# EAGLE library part PXA270_VF_BGA (library MAX9812)
Intel® PXA270 Processor PXA270 with VF-BGA package 13x13 Features: High-performance processor: -Intel XScale® microarchitecture with Intel® Wireless MMX? Technology -7 Stage pipeline -32 KB instruction cache -32 KB data cache -2 KB "mini" data cache -Extensive data buffering 256 Kbytes of internal SRAM for high speed code or data storage preserved during low-power states High-speed baseband processor interface (Mobile Scalable Link) Rich serial peripheral set: -AC?97 audio port -I2S audio port -USB Client controller -USB Host controller -USB On-The-Go controller -Three high-speed UARTs (two with hardware flow control) -FIR and SIR infrared communications port Hardware debug features ? IEEE JTAG interface with boundary scan Hardware performance-monitoring features with on-chip trace buffer Real-time clock Operating-system timers LCD Controller Universal Subscriber Identity Module interface Low power: -Wireless Intel Speedstep® Technology -Less than 500 mW typical internal dissipation -Supply voltage may be reduced to 0.85 V -Four low-power modes -Dynamic voltage and frequencymanagement High-performance memory controller: -Four banks of SDRAM: up to 104 MHz @ 2.5V, 3.0V, and 3.3V I/O interface -Six static chip selects -Support for PCMCIA and Compact Flash -Companion chip interface Flexible clocking: -CPU clock from 104 to 624 MHz -Flexible memory clock ratios -Frequency changes -Functional clock gating Additional peripherals for system connectivity: -SD Card / MMC Controller (with SPI mode support) -Memory Stick card controller -Three SSP controllers -Two I2C controllers -Four pulse-width modulators (PWMs) -Keypad interface with both direct and matrix keys support -Most peripheral pins double as GPIOs Description: The Intel® PXA270 processor (PXA270 processor) provides industry-leading multimedia performance, low-power capabilities, rich peripheral integration and second generation memory stacking. Designed from the ground up for wireless clients, it incorporates the latest Intel advances in mobile technology over its predecessor, the Intel® PXA255 processor. These same attributes and features also make the PXA270 processor ideal for embedded applications. The PXA270 processor redefines scalability by operating from 104 MHz up to 624 MHz, providing enough performance for the most demanding mobile applications. The PXA270 processor is the first Intel processor to include Intel® Wireless MMX? technology, enabling high-performance, low-power multimedia acceleration with a general-purpose instruction set. Intel® Quick Capture technology provides a flexible and powerful camera interface for capturing digital images and video. While performance is key in the PXA270 processor, power consumption is also a critical component. The new capabilities of Wireless Intel SpeedStep® technology set the standard for low-power consumption. The PXA270 processor is offered in two packages: 13x13 mm VFBGA and 23x23 mm PBGA. Please send any comments to: messi@users.sourceforge.net
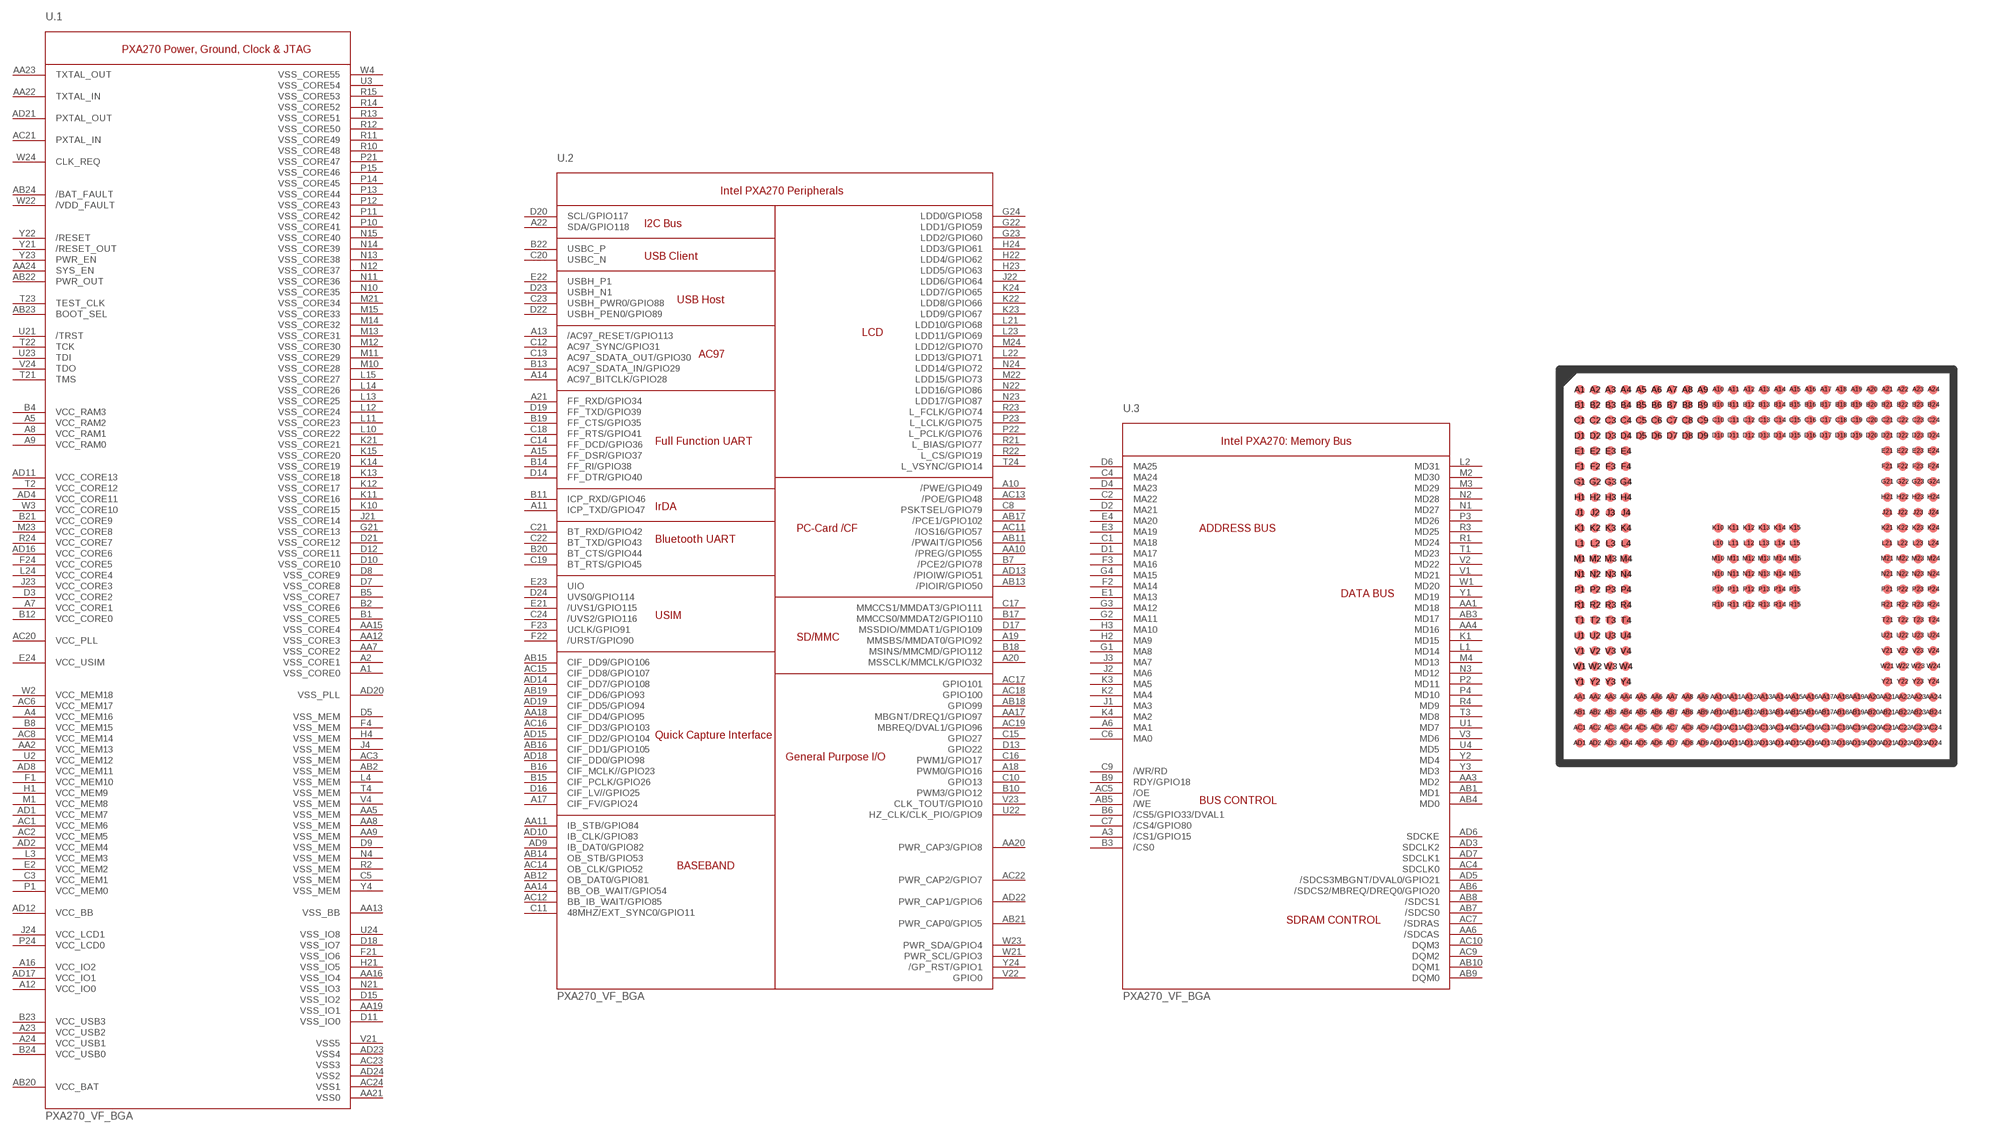
[diagram p28: symbol with the pads of PXA270_VF_BGA; footprint PXA270_VF_BGA]

Designator prefix U; gates .2=PXA270_PERIPHERALS .3=PXA_270_MEM_BUS .1=PXA270_PWR_CLK_13X13

## PXA270_VF_BGA  [PXA270_VF_BGA]
A1  .1:VSS_CORE0  pwr
A2  .1:VSS_CORE1  pwr
A3  .3:/CS1/GPIO15
A4  .1:VCC_MEM16  pwr
A5  .1:VCC_RAM2  pwr
A6  .3:MA1  out
A7  .1:VCC_CORE1  pwr
A8  .1:VCC_RAM1  pwr
A9  .1:VCC_RAM0  pwr
A10  .2:/PWE/GPIO49
A11  .2:ICP_TXD/GPIO47
A12  .1:VCC_IO0  pwr
A13  .2:/AC97_RESET/GPIO113
A14  .2:AC97_BITCLK/GPIO28
A15  .2:FF_DSR/GPIO37
A16  .1:VCC_IO2  pwr
A17  .2:CIF_FV/GPIO24
A18  .2:PWM0/GPIO16
A19  .2:MMSBS/MMDAT0/GPIO92
A20  .2:MSSCLK/MMCLK/GPIO32
A21  .2:FF_RXD/GPIO34
A22  .2:SDA/GPIO118
A23  .1:VCC_USB2  pwr
A24  .1:VCC_USB1  pwr
AA1  .3:MD18
AA2  .1:VCC_MEM13  pwr
AA3  .3:MD2
AA4  .3:MD16
AA5  .1:VSS_MEM  pwr
AA6  .3:/SDCAS  out
AA7  .1:VSS_CORE2  pwr
AA8  .1:VSS_MEM  pwr
AA9  .1:VSS_MEM  pwr
AA10  .2:/PREG/GPIO55
AA11  .2:IB_STB/GPIO84
AA12  .1:VSS_CORE3  pwr
AA13  .1:VSS_BB  pwr
AA14  .2:BB_OB_WAIT/GPIO54
AA15  .1:VSS_CORE4  pwr
AA16  .1:VSS_IO4  pwr
AA17  .2:MBGNT/DREQ1/GPIO97
AA18  .2:CIF_DD4/GPIO95
AA19  .1:VSS_IO1  pwr
AA20  .2:PWR_CAP3/GPIO8
AA21  .1:VSS0  pwr
AA22  .1:TXTAL_IN  in
AA23  .1:TXTAL_OUT  out
AA24  .1:SYS_EN
AB1  .3:MD1
AB2  .1:VSS_MEM  pwr
AB3  .3:MD17
AB4  .3:MD0
AB5  .3:/WE  out
AB6  .3:/SDCS2/MBREQ/DREQ0/GPIO20
AB7  .3:/SDCS0  out
AB8  .3:/SDCS1  out
AB9  .3:DQM0  out
AB10  .3:DQM1  out
AB11  .2:/PWAIT/GPIO56
AB12  .2:OB_DAT0/GPIO81
AB13  .2:/PIOIR/GPIO50
AB14  .2:OB_STB/GPIO53
AB15  .2:CIF_DD9/GPIO106
AB16  .2:CIF_DD1/GPIO105
AB17  .2:/PCE1/GPIO102
AB18  .2:GPIO99
AB19  .2:CIF_DD6/GPIO93
AB20  .1:VCC_BAT  pwr
AB21  .2:PWR_CAP0/GPIO5
AB22  .1:PWR_OUT  out
AB23  .1:BOOT_SEL  in
AB24  .1:/BAT_FAULT  in
AC1  .1:VCC_MEM6  pwr
AC2  .1:VCC_MEM5  pwr
AC3  .1:VSS_MEM  pwr
AC4  .3:SDCLK0  out
AC5  .3:/OE  out
AC6  .1:VCC_MEM17  pwr
AC7  .3:/SDRAS  out
AC8  .1:VCC_MEM14  pwr
AC9  .3:DQM2  out
AC10  .3:DQM3  out
AC11  .2:/IOS16/GPIO57
AC12  .2:BB_IB_WAIT/GPIO85
AC13  .2:/POE/GPIO48
AC14  .2:OB_CLK/GPIO52
AC15  .2:CIF_DD8/GPIO107
AC16  .2:CIF_DD3/GPIO103
AC17  .2:GPIO101
AC18  .2:GPIO100
AC19  .2:MBREQ/DVAL1/GPIO96
AC20  .1:VCC_PLL  pwr
AC21  .1:PXTAL_IN  in
AC22  .2:PWR_CAP2/GPIO7
AC23  .1:VSS3  pwr
AC24  .1:VSS1  pwr
AD1  .1:VCC_MEM7  pwr
AD2  .1:VCC_MEM4  pwr
AD3  .3:SDCLK2  out
AD4  .1:VCC_CORE11  pwr
AD5  .3:/SDCS3MBGNT/DVAL0/GPIO21
AD6  .3:SDCKE  out
AD7  .3:SDCLK1  out
AD8  .1:VCC_MEM11  pwr
AD9  .2:IB_DAT0/GPIO82
AD10  .2:IB_CLK/GPIO83
AD11  .1:VCC_CORE13  pwr
AD12  .1:VCC_BB  pwr
AD13  .2:/PIOIW/GPIO51
AD14  .2:CIF_DD7/GPIO108
AD15  .2:CIF_DD2/GPIO104
AD16  .1:VCC_CORE6  pwr
AD17  .1:VCC_IO1  pwr
AD18  .2:CIF_DD0/GPIO98
AD19  .2:CIF_DD5/GPIO94
AD20  .1:VSS_PLL  pwr
AD21  .1:PXTAL_OUT  out
AD22  .2:PWR_CAP1/GPIO6
AD23  .1:VSS4  pwr
AD24  .1:VSS2  pwr
B1  .1:VSS_CORE5  pwr
B2  .1:VSS_CORE6  pwr
B3  .3:/CS0  out
B4  .1:VCC_RAM3  pwr
B5  .1:VSS_CORE7  pwr
B6  .3:/CS5/GPIO33/DVAL1
B7  .2:/PCE2/GPIO78
B8  .1:VCC_MEM15  pwr
B9  .3:RDY/GPIO18
B10  .2:PWM3/GPIO12
B11  .2:ICP_RXD/GPIO46
B12  .1:VCC_CORE0  pwr
B13  .2:AC97_SDATA_IN/GPIO29
B14  .2:FF_RI/GPIO38
B15  .2:CIF_PCLK/GPIO26
B16  .2:CIF_MCLK//GPIO23
B17  .2:MMCCS0/MMDAT2/GPIO110
B18  .2:MSINS/MMCMD/GPIO112
B19  .2:FF_CTS/GPIO35
B20  .2:BT_CTS/GPIO44
B21  .1:VCC_CORE9  pwr
B22  .2:USBC_P
B23  .1:VCC_USB3  pwr
B24  .1:VCC_USB0  pwr
C1  .3:MA18  out
C2  .3:MA22  out
C3  .1:VCC_MEM1  pwr
C4  .3:MA24  out
C5  .1:VSS_MEM  pwr
C6  .3:MA0  out
C7  .3:/CS4/GPIO80
C8  .2:PSKTSEL/GPIO79
C9  .3:/WR/RD  out
C10  .2:GPIO13
C11  .2:48MHZ/EXT_SYNC0/GPIO11
C12  .2:AC97_SYNC/GPIO31
C13  .2:AC97_SDATA_OUT/GPIO30
C14  .2:FF_DCD/GPIO36
C15  .2:GPIO27
C16  .2:PWM1/GPIO17
C17  .2:MMCCS1/MMDAT3/GPIO111
C18  .2:FF_RTS/GPIO41
C19  .2:BT_RTS/GPIO45
C20  .2:USBC_N
C21  .2:BT_RXD/GPIO42
C22  .2:BT_TXD/GPIO43
C23  .2:USBH_PWR0/GPIO88
C24  .2:/UVS2/GPIO116
D1  .3:MA17  out
D2  .3:MA21  out
D3  .1:VCC_CORE2  pwr
D4  .3:MA23  out
D5  .1:VSS_MEM  pwr
D6  .3:MA25  out
D7  .1:VSS_CORE8  pwr
D8  .1:VSS_CORE9  pwr
D9  .1:VSS_MEM  pwr
D10  .1:VSS_CORE10  pwr
D11  .1:VSS_IO0  pwr
D12  .1:VSS_CORE11  pwr
D13  .2:GPIO22
D14  .2:FF_DTR/GPIO40
D15  .1:VSS_IO2  pwr
D16  .2:CIF_LV//GPIO25
D17  .2:MSSDIO/MMDAT1/GPIO109
D18  .1:VSS_IO7  pwr
D19  .2:FF_TXD/GPIO39
D20  .2:SCL/GPIO117
D21  .1:VSS_CORE12  pwr
D22  .2:USBH_PEN0/GPIO89
D23  .2:USBH_N1
D24  .2:UVS0/GPIO114
E1  .3:MA13  out
E2  .1:VCC_MEM2  pwr
E3  .3:MA19  out
E4  .3:MA20  out
E21  .2:/UVS1/GPIO115
E22  .2:USBH_P1
E23  .2:UIO
E24  .1:VCC_USIM  pwr
F1  .1:VCC_MEM10  pwr
F2  .3:MA14  out
F3  .3:MA16  out
F4  .1:VSS_MEM  pwr
F21  .1:VSS_IO6  pwr
F22  .2:/URST/GPIO90
F23  .2:UCLK/GPIO91
F24  .1:VCC_CORE5  pwr
G1  .3:MA8  out
G2  .3:MA11  out
G3  .3:MA12  out
G4  .3:MA15  out
G21  .1:VSS_CORE13  pwr
G22  .2:LDD1/GPIO59
G23  .2:LDD2/GPIO60
G24  .2:LDD0/GPIO58
H1  .1:VCC_MEM9  pwr
H2  .3:MA9  out
H3  .3:MA10  out
H4  .1:VSS_MEM  pwr
H21  .1:VSS_IO5  pwr
H22  .2:LDD4/GPIO62
H23  .2:LDD5/GPIO63
H24  .2:LDD3/GPIO61
J1  .3:MA3  out
J2  .3:MA6  out
J3  .3:MA7  out
J4  .1:VSS_MEM  pwr
J21  .1:VSS_CORE14  pwr
J22  .2:LDD6/GPIO64
J23  .1:VCC_CORE3  pwr
J24  .1:VCC_LCD1  pwr
K1  .3:MD15
K2  .3:MA4  out
K3  .3:MA5  out
K4  .3:MA2  out
K10  .1:VSS_CORE15  pwr
K11  .1:VSS_CORE16  pwr
K12  .1:VSS_CORE17  pwr
K13  .1:VSS_CORE18  pwr
K14  .1:VSS_CORE19  pwr
K15  .1:VSS_CORE20  pwr
K21  .1:VSS_CORE21  pwr
K22  .2:LDD8/GPIO66
K23  .2:LDD9/GPIO67
K24  .2:LDD7/GPIO65
L1  .3:MD14
L2  .3:MD31
L3  .1:VCC_MEM3  pwr
L4  .1:VSS_MEM  pwr
L10  .1:VSS_CORE22  pwr
L11  .1:VSS_CORE23  pwr
L12  .1:VSS_CORE24  pwr
L13  .1:VSS_CORE25  pwr
L14  .1:VSS_CORE26  pwr
L15  .1:VSS_CORE27  pwr
L21  .2:LDD10/GPIO68
L22  .2:LDD13/GPIO71
L23  .2:LDD11/GPIO69
L24  .1:VCC_CORE4  pwr
M1  .1:VCC_MEM8  pwr
M2  .3:MD30
M3  .3:MD29
M4  .3:MD13
M10  .1:VSS_CORE28  pwr
M11  .1:VSS_CORE29  pwr
M12  .1:VSS_CORE30  pwr
M13  .1:VSS_CORE31  pwr
M14  .1:VSS_CORE32  pwr
M15  .1:VSS_CORE33
M21  .1:VSS_CORE34  pwr
M22  .2:LDD15/GPIO73
M23  .1:VCC_CORE8  pwr
M24  .2:LDD12/GPIO70
N1  .3:MD27
N2  .3:MD28
N3  .3:MD12
N4  .1:VSS_MEM  pwr
N10  .1:VSS_CORE35  pwr
N11  .1:VSS_CORE36  pwr
N12  .1:VSS_CORE37  pwr
N13  .1:VSS_CORE38  pwr
N14  .1:VSS_CORE39  pwr
N15  .1:VSS_CORE40  pwr
N21  .1:VSS_IO3  pwr
N22  .2:LDD16/GPIO86
N23  .2:LDD17/GPIO87
N24  .2:LDD14/GPIO72
P1  .1:VCC_MEM0  pwr
P2  .3:MD11
P3  .3:MD26
P4  .3:MD10
P10  .1:VSS_CORE41  pwr
P11  .1:VSS_CORE42  pwr
P12  .1:VSS_CORE43  pwr
P13  .1:VSS_CORE44  pwr
P14  .1:VSS_CORE45  pwr
P15  .1:VSS_CORE46  pwr
P21  .1:VSS_CORE47  pwr
P22  .2:L_PCLK/GPIO76
P23  .2:L_LCLK/GPIO75
P24  .1:VCC_LCD0  pwr
R1  .3:MD24
R2  .1:VSS_MEM  pwr
R3  .3:MD25
R4  .3:MD9
R10  .1:VSS_CORE48  pwr
R11  .1:VSS_CORE49  pwr
R12  .1:VSS_CORE50  pwr
R13  .1:VSS_CORE51  pwr
R14  .1:VSS_CORE52  pwr
R15  .1:VSS_CORE53  pwr
R21  .2:L_BIAS/GPIO77
R22  .2:L_CS/GPIO19
R23  .2:L_FCLK/GPIO74
R24  .1:VCC_CORE7  pwr
T1  .3:MD23
T2  .1:VCC_CORE12  pwr
T3  .3:MD8
T4  .1:VSS_MEM  pwr
T21  .1:TMS  in
T22  .1:TCK  in
T23  .1:TEST_CLK  in
T24  .2:L_VSYNC/GPIO14
U1  .3:MD7
U2  .1:VCC_MEM12  pwr
U3  .1:VSS_CORE54  pwr
U4  .3:MD5
U21  .1:/TRST  in
U22  .2:HZ_CLK/CLK_PIO/GPIO9
U23  .1:TDI  in
U24  .1:VSS_IO8  pwr
V1  .3:MD21
V2  .3:MD22
V3  .3:MD6
V4  .1:VSS_MEM  pwr
V21  .1:VSS5  pwr
V22  .2:GPIO0
V23  .2:CLK_TOUT/GPIO10
V24  .1:TDO  out
W1  .3:MD20
W2  .1:VCC_MEM18  pwr
W3  .1:VCC_CORE10  pwr
W4  .1:VSS_CORE55  pwr
W21  .2:PWR_SCL/GPIO3
W22  .1:/VDD_FAULT  in
W23  .2:PWR_SDA/GPIO4
W24  .1:CLK_REQ
Y1  .3:MD19
Y2  .3:MD4
Y3  .3:MD3
Y4  .1:VSS_MEM  pwr
Y21  .1:/RESET_OUT  out
Y22  .1:/RESET  in
Y23  .1:PWR_EN  out
Y24  .2:/GP_RST/GPIO1

## Footprint PXA270_VF_BGA (pad centres in mm)
13x13mm VF-BGA Intel® PXA270 Processor Package 0.5mm pitch; 0.3 mm diameter Please send any comments to: messi@users.sourceforge.net
smd 0.3 x 0.3: A1 -5.75,5.75; A2 -5.25,5.75; A3 -4.75,5.75; A4 -4.25,5.75; A5 -3.75,5.75; A6 -3.25,5.75; A7 -2.75,5.75; A8 -2.25,5.75; A9 -1.75,5.75; A10 -1.25,5.75; A11 -0.75,5.75; A12 -0.25,5.75; A13 0.25,5.75; A14 0.75,5.75; A15 1.25,5.75; A16 1.75,5.75; A17 2.25,5.75; A18 2.75,5.75; A19 3.25,5.75; A20 3.75,5.75; A21 4.25,5.75; A22 4.75,5.75; A23 5.25,5.75; A24 5.75,5.75; AA1 -5.75,-4.25; AA2 -5.25,-4.25; AA3 -4.75,-4.25; AA4 -4.25,-4.25; AA5 -3.75,-4.25; AA6 -3.25,-4.25; AA7 -2.75,-4.25; AA8 -2.25,-4.25; AA9 -1.75,-4.25; AA10 -1.25,-4.25; AA11 -0.75,-4.25; AA12 -0.25,-4.25; AA13 0.25,-4.25; AA14 0.75,-4.25; AA15 1.25,-4.25; AA16 1.75,-4.25; AA17 2.25,-4.25; AA18 2.75,-4.25; AA19 3.25,-4.25; AA20 3.75,-4.25; AA21 4.25,-4.25; AA22 4.75,-4.25; AA23 5.25,-4.25; AA24 5.75,-4.25; AB1 -5.75,-4.75; AB2 -5.25,-4.75; AB3 -4.75,-4.75; AB4 -4.25,-4.75; AB5 -3.75,-4.75; AB6 -3.25,-4.75; AB7 -2.75,-4.75; AB8 -2.25,-4.75; AB9 -1.75,-4.75; AB10 -1.25,-4.75; AB11 -0.75,-4.75; AB12 -0.25,-4.75; AB13 0.25,-4.75; AB14 0.75,-4.75; AB15 1.25,-4.75; AB16 1.75,-4.75; AB17 2.25,-4.75; AB18 2.75,-4.75; AB19 3.25,-4.75; AB20 3.75,-4.75; AB21 4.25,-4.75; AB22 4.75,-4.75; AB23 5.25,-4.75; AB24 5.75,-4.75; AC1 -5.75,-5.25; AC2 -5.25,-5.25; AC3 -4.75,-5.25; AC4 -4.25,-5.25; AC5 -3.75,-5.25; AC6 -3.25,-5.25; AC7 -2.75,-5.25; AC8 -2.25,-5.25; AC9 -1.75,-5.25; AC10 -1.25,-5.25; AC11 -0.75,-5.25; AC12 -0.25,-5.25; AC13 0.25,-5.25; AC14 0.75,-5.25; AC15 1.25,-5.25; AC16 1.75,-5.25; AC17 2.25,-5.25; AC18 2.75,-5.25; AC19 3.25,-5.25; AC20 3.75,-5.25; AC21 4.25,-5.25; AC22 4.75,-5.25; AC23 5.25,-5.25; AC24 5.75,-5.25; AD1 -5.75,-5.75; AD2 -5.25,-5.75; AD3 -4.75,-5.75; AD4 -4.25,-5.75; AD5 -3.75,-5.75; AD6 -3.25,-5.75; AD7 -2.75,-5.75; AD8 -2.25,-5.75; AD9 -1.75,-5.75; AD10 -1.25,-5.75; AD11 -0.75,-5.75; AD12 -0.25,-5.75; AD13 0.25,-5.75; AD14 0.75,-5.75; AD15 1.25,-5.75; AD16 1.75,-5.75; AD17 2.25,-5.75; AD18 2.75,-5.75; AD19 3.25,-5.75; AD20 3.75,-5.75; AD21 4.25,-5.75; AD22 4.75,-5.75; AD23 5.25,-5.75; AD24 5.75,-5.75; B1 -5.75,5.25; B2 -5.25,5.25; B3 -4.75,5.25; B4 -4.25,5.25; B5 -3.75,5.25; B6 -3.25,5.25; B7 -2.75,5.25; B8 -2.25,5.25; B9 -1.75,5.25; B10 -1.25,5.25; B11 -0.75,5.25; B12 -0.25,5.25; B13 0.25,5.25; B14 0.75,5.25; B15 1.25,5.25; B16 1.75,5.25; B17 2.25,5.25; B18 2.75,5.25; B19 3.25,5.25; B20 3.75,5.25; B21 4.25,5.25; B22 4.75,5.25; B23 5.25,5.25; B24 5.75,5.25; C1 -5.75,4.75; C2 -5.25,4.75; C3 -4.75,4.75; C4 -4.25,4.75; C5 -3.75,4.75; C6 -3.25,4.75; C7 -2.75,4.75; C8 -2.25,4.75; C9 -1.75,4.75; C10 -1.25,4.75; C11 -0.75,4.75; C12 -0.25,4.75; C13 0.25,4.75; C14 0.75,4.75; C15 1.25,4.75; C16 1.75,4.75; C17 2.25,4.75; C18 2.75,4.75; C19 3.25,4.75; C20 3.75,4.75; C21 4.25,4.75; C22 4.75,4.75; C23 5.25,4.75; C24 5.75,4.75; D1 -5.75,4.25; D2 -5.25,4.25; D3 -4.75,4.25; D4 -4.25,4.25; D5 -3.75,4.25; D6 -3.25,4.25; D7 -2.75,4.25; D8 -2.25,4.25; D9 -1.75,4.25; D10 -1.25,4.25; D11 -0.75,4.25; D12 -0.25,4.25; D13 0.25,4.25; D14 0.75,4.25; D15 1.25,4.25; D16 1.75,4.25; D17 2.25,4.25; D18 2.75,4.25; D19 3.25,4.25; D20 3.75,4.25; D21 4.25,4.25; D22 4.75,4.25; D23 5.25,4.25; D24 5.75,4.25; E1 -5.75,3.75; E2 -5.25,3.75; E3 -4.75,3.75; E4 -4.25,3.75; E21 4.25,3.75; E22 4.75,3.75; E23 5.25,3.75; E24 5.75,3.75; F1 -5.75,3.25; F2 -5.25,3.25; F3 -4.75,3.25; F4 -4.25,3.25; F21 4.25,3.25; F22 4.75,3.25; F23 5.25,3.25; F24 5.75,3.25; G1 -5.75,2.75; G2 -5.25,2.75; G3 -4.75,2.75; G4 -4.25,2.75; G21 4.25,2.75; G22 4.75,2.75; G23 5.25,2.75; G24 5.75,2.75; H1 -5.75,2.25; H2 -5.25,2.25; H3 -4.75,2.25; H4 -4.25,2.25; H21 4.25,2.25; H22 4.75,2.25; H23 5.25,2.25; H24 5.75,2.25; J1 -5.75,1.75; J2 -5.25,1.75; J3 -4.75,1.75; J4 -4.25,1.75; J21 4.25,1.75; J22 4.75,1.75; J23 5.25,1.75; J24 5.75,1.75; K1 -5.75,1.25; K2 -5.25,1.25; K3 -4.75,1.25; K4 -4.25,1.25; K10 -1.25,1.25; K11 -0.75,1.25; K12 -0.25,1.25; K13 0.25,1.25; K14 0.75,1.25; K15 1.25,1.25; K21 4.25,1.25; K22 4.75,1.25; K23 5.25,1.25; K24 5.75,1.25; L1 -5.75,0.75; L2 -5.25,0.75; L3 -4.75,0.75; L4 -4.25,0.75; L10 -1.25,0.75; L11 -0.75,0.75; L12 -0.25,0.75; L13 0.25,0.75; L14 0.75,0.75; L15 1.25,0.75; L21 4.25,0.75; L22 4.75,0.75; L23 5.25,0.75; L24 5.75,0.75; M1 -5.75,0.25; M2 -5.25,0.25; M3 -4.75,0.25; M4 -4.25,0.25; M10 -1.25,0.25; M11 -0.75,0.25; M12 -0.25,0.25; M13 0.25,0.25; M14 0.75,0.25; M15 1.25,0.25; M21 4.25,0.25; M22 4.75,0.25; M23 5.25,0.25; M24 5.75,0.25; N1 -5.75,-0.25; N2 -5.25,-0.25; N3 -4.75,-0.25; N4 -4.25,-0.25; N10 -1.25,-0.25; N11 -0.75,-0.25; N12 -0.25,-0.25; N13 0.25,-0.25; N14 0.75,-0.25; N15 1.25,-0.25; N21 4.25,-0.25; N22 4.75,-0.25; N23 5.25,-0.25; N24 5.75,-0.25; P1 -5.75,-0.75; P2 -5.25,-0.75; P3 -4.75,-0.75; P4 -4.25,-0.75; P10 -1.25,-0.75; P11 -0.75,-0.75; P12 -0.25,-0.75; P13 0.25,-0.75; P14 0.75,-0.75; P15 1.25,-0.75; P21 4.25,-0.75; P22 4.75,-0.75; P23 5.25,-0.75; P24 5.75,-0.75; R1 -5.75,-1.25; R2 -5.25,-1.25; R3 -4.75,-1.25; R4 -4.25,-1.25; R10 -1.25,-1.25; R11 -0.75,-1.25; R12 -0.25,-1.25; R13 0.25,-1.25; R14 0.75,-1.25; R15 1.25,-1.25; R21 4.25,-1.25; R22 4.75,-1.25; R23 5.25,-1.25; R24 5.75,-1.25; T1 -5.75,-1.75; T2 -5.25,-1.75; T3 -4.75,-1.75; T4 -4.25,-1.75; T21 4.25,-1.75; T22 4.75,-1.75; T23 5.25,-1.75; T24 5.75,-1.75; U1 -5.75,-2.25; U2 -5.25,-2.25; U3 -4.75,-2.25; U4 -4.25,-2.25; U21 4.25,-2.25; U22 4.75,-2.25; U23 5.25,-2.25; U24 5.75,-2.25; V1 -5.75,-2.75; V2 -5.25,-2.75; V3 -4.75,-2.75; V4 -4.25,-2.75; V21 4.25,-2.75; V22 4.75,-2.75; V23 5.25,-2.75; V24 5.75,-2.75; W1 -5.75,-3.25; W2 -5.25,-3.25; W3 -4.75,-3.25; W4 -4.25,-3.25; W21 4.25,-3.25; W22 4.75,-3.25; W23 5.25,-3.25; W24 5.75,-3.25; Y1 -5.75,-3.75; Y2 -5.25,-3.75; Y3 -4.75,-3.75; Y4 -4.25,-3.75; Y21 4.25,-3.75; Y22 4.75,-3.75; Y23 5.25,-3.75; Y24 5.75,-3.75